# Altium footprint library ETL_RB.PcbLib: 45 footprints (part 3 of 3)
Each footprint in its own frame and in the unit in brackets; x right, y up, seen from the top. Pads: shape width x height; smd on the part's side, far side on the other; paste and mask are expansions set on the pad; w line width, h text height; cw(c..) or ccw(c..) is an arc to the next point about the centre after c.
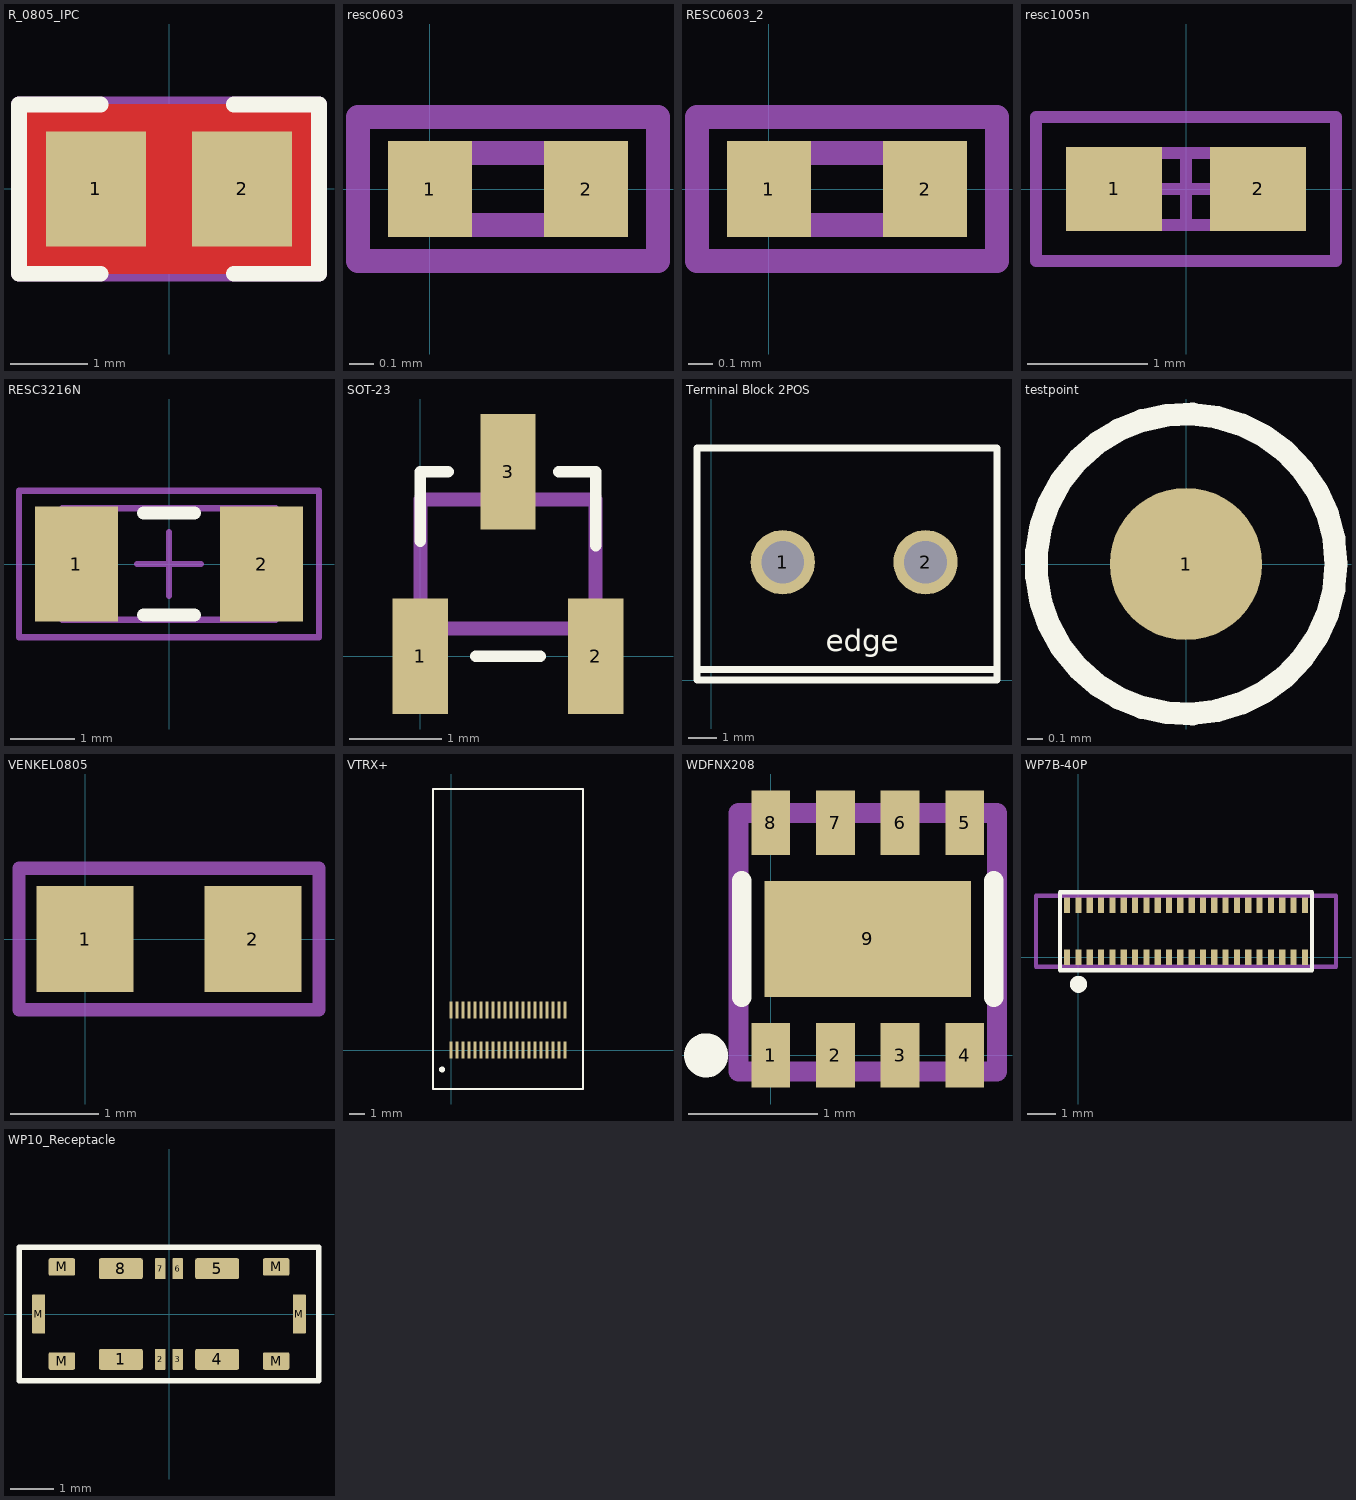
[diagram p2: the footprints below, top view; thin cyan lines are the x and y axes]

## R_0805_IPC [mm]
pads (2):
  rect 1.3x1.5 smd: 1(-0.95,0) 2(0.95,0)
Top Layer:
  pour cut-out: -1.9,-1.1 1.9,-1.1 1.9,1.1 -1.9,1.1
Top Overlay:
  lines w0.203: -1.95,-1.1 -0.889,-1.1 ; -1.95,-1.061 -1.95,1.098 -0.889,1.098 ; 0.844,-1.1 1.95,-1.1 ; 0.844,1.098 1.905,1.098 ; 1.95,-1.061 1.95,1.1
Mechanical 1:
  lines w0.203: -1.95,-1.1 1.95,-1.1 1.95,1.1 -1.95,1.1 -1.95,-1.1
  text ".Designator" at -1.5,-0.3 h0.85
3D body "RESC2012X06M.step": height 0.6, standoff 0, extent -1.1,-0.675 1.1,0.675

## resc0603 [mm]
pads (2):
  rect 0.35x0.4 smd: 1(0,0) 2(0.65,0)
Mechanical 13:
  lines w0.102: 0,-0.15 0,0.15 0.65,0.15 0.65,-0.15 0,-0.15
Mechanical 15:
  lines w0.102: -0.3,-0.3 0.95,-0.3 0.95,0.3 -0.3,0.3 -0.3,-0.3
3D body: height 0.5, standoff 0, extent 0.001,-0.149 0.649,0.149

## RESC0603_2 [mm]
pads (2):
  rect 0.35x0.4 smd: 1(0,0) 2(0.65,0)
Mechanical 13:
  lines w0.102: 0,-0.15 0,0.15 0.65,0.15 0.65,-0.15 0,-0.15
Mechanical 15:
  lines w0.102: -0.3,-0.3 0.95,-0.3 0.95,0.3 -0.3,0.3 -0.3,-0.3
3D body: height 0.5, standoff 0, extent 0.001,-0.149 0.649,0.149

## resc1005n [mm] "Chip Resistor, Body 1.1x0.5mm, IPC Medium Density"
height 0.4
pads (2):
  rect 0.8x0.7 smd: 1(-0.6,0) 2(0.6,0)
Mechanical 13:
  lines w0.1: -0.55,-0.3 -0.55,0.3 0.55,0.3 0.55,-0.3 -0.55,-0.3
Mechanical 15:
  lines w0.1: -0.3,0 0.3,0 ; 0,-0.3 0,0.3 ; -1.25,-0.6 -1.25,0.6 1.25,0.6 1.25,-0.6 -1.25,-0.6
3D body: height 0.4, standoff 0, extent -0.55,-0.3 0.55,0.3

## RESC3216N [mm] "Chip Resistor, Body 3.2x1.6mm, IPC Medium Density"
height 0.71
pads (2):
  rect 1.3x1.8 smd: 1(-1.45,0) 2(1.45,0)
Top Overlay:
  lines w0.2: -0.4,-0.8 0.4,-0.8 ; -0.4,0.8 0.4,0.8
Mechanical 13:
  lines w0.1: -1.675,-0.875 -1.675,0.875 1.675,0.875 1.675,-0.875 -1.675,-0.875
Mechanical 15:
  lines w0.1: -0.5,0 0.5,0 ; 0,-0.5 0,0.5 ; -2.35,-1.15 -2.35,1.15 2.35,1.15 2.35,-1.15 -2.35,-1.15
3D body: height 0.55, standoff 0, extent -1.675,-0.875 1.675,0.875

## SOT-23 [mm]
pads (3):
  rect 0.6x1.25 smd: 1(0,0) 2(1.9,0) 3(0.95,2)
Top Overlay:
  lines w0.127: 0,1.25 0,2 0.3,2 ; 0.6,0 1.3,0 ; 1.5,2 1.9,2 1.9,1.2
Mechanical 5:
  lines w0.152: 0,0.3 0,1.7 1.9,1.7 1.9,0.3 0,0.3
3D body: height 1.2, standoff 0, extent 0.001,0.301 1.899,1.699

## Terminal Block 2POS [mil] "TE 282836-2"
pads (2):
  round 90 hole 60: 1(100,165) 2(300,165)
Top Overlay:
  lines w10: -20,15 400,15 ; -20,0 400,0 400,325 -20,325 -20,0
  text "edge" at 160,40 h30
3D body "c-282836-2-h-3d.stp": height 397.64, standoff -133.86, extent -20,3.58 397.32,326.42

## testpoint [mil]
height 19.68
pads (1):
  round 40 smd paste-39.37: 1(0,0)
Top Overlay:
  circle w6: c0,0 r39.37

## VENKEL0805 [mm]
height 1.7
pads (2):
  rect 1.1x1.2 smd: 1(0,0) 2(1.9,0)
Mechanical 15:
  lines w0.152: -0.75,-0.8 -0.75,0.8 2.65,0.8 2.65,-0.8 -0.75,-0.8
3D body: height 1.7, standoff 0, extent -0.749,-0.799 2.649,0.799

## VTRX+ [mm]
pads (40):
  rect 0.2x1.12 smd: 1(0,0) 2(0,2.66) 3(0.4,0) 4(0.4,2.66) 5(0.8,0) 6(0.8,2.66) 7(1.2,0) 8(1.2,2.66) 9(1.6,0) 10(1.6,2.66) 11(2,0) 12(2,2.66) 13(2.4,0) 14(2.4,2.66) 15(2.8,0) 16(2.8,2.66) 17(3.2,0) 18(3.2,2.66) 19(3.6,0) 20(3.6,2.66) 21(4,0) 22(4,2.66) 23(4.4,0) 24(4.4,2.66) 25(4.8,0) 26(4.8,2.66) 27(5.2,0) 28(5.2,2.66) 29(5.6,0) 30(5.6,2.66) 31(6,0) 32(6,2.66) 33(6.4,0) 34(6.4,2.66) 35(6.8,0) 36(6.8,2.66) 37(7.2,0) 38(7.2,2.66) 39(7.6,0) 40(7.6,2.66)
Top Overlay:
  circle w0.2: c-0.6,-1.3 r0.1
  lines w0.15: -1.2,-2.6 -1.2,17.4 8.8,17.4 8.8,-2.6 -1.2,-2.6
Mechanical 13:
  lines w0.152: -1.2,-2.6 -1.2,17.4 8.8,17.4 8.8,-2.6 -1.2,-2.6
3D body: height 2, standoff 0, extent -1.199,-2.599 8.799,17.399

## WDFNX208 [mm]
height 0.8
pads (9):
  rect 0.3x0.5 smd: 1(0,0) 2(0.5,0) 3(1,0) 4(1.5,0) 5(1.5,1.8) 6(1,1.8) 7(0.5,1.8) 8(0,1.8)
  rect 1.6x0.9 smd: 9(0.75,0.9)
Top Overlay:
  circle w0.2: c-0.5,0 r0.071
  lines w0.15: -0.225,0.45 -0.225,1.35 ; 1.725,0.45 1.725,1.35
Mechanical 13:
  lines w0.152: -0.25,-0.125 -0.25,1.875 1.75,1.875 1.75,-0.125 -0.25,-0.125
3D body: height 0.8, standoff 0, extent -0.249,-0.124 1.749,1.874

## WP7B-40P [mm]
height 0.5
pads (44):
  rect 0.22x0.55 smd: 1(0,0) 2(0.4,0) 3(0.8,0) 4(1.2,0) 5(1.6,0) 6(2,0) 7(2.4,0) 8(2.8,0) 9(3.2,0) 10(3.6,0) 11(4,0) 12(4.4,0) 13(4.8,0) 14(5.2,0) 15(5.6,0) 16(6,0) 17(6.4,0) 18(6.8,0) 19(7.2,0) 20(7.6,0) 21(7.6,1.85) 22(7.2,1.85) 23(6.8,1.85) 24(6.4,1.85) 25(6,1.85) 26(5.6,1.85) 27(5.2,1.85) 28(4.8,1.85) 29(4.4,1.85) 30(4,1.85) 31(3.6,1.85) 32(3.2,1.85) 33(2.8,1.85) 34(2.4,1.85) 35(2,1.85) 36(1.6,1.85) 37(1.2,1.85) 38(0.8,1.85) 39(0.4,1.85) 40(0,1.85) 41(-0.4,0) 42(8,0) 43(8,1.85) 44(-0.4,1.85)
Top Overlay:
  circle w0.5: c0,-0.95 r0.05
  lines w0.15: -0.65,-0.45 8.25,-0.45 8.25,2.3 -0.65,2.3 -0.65,-0.45
Mechanical 13:
  lines w0.152: -1.5,-0.325 9.1,-0.325 9.1,2.175 -1.5,2.175 -1.5,-0.325
3D body: height 0.5, standoff 0, extent -1.499,-0.324 9.099,2.174

## WP10_Receptacle [mm]
pads (14):
  rrect15% 1x0.475 smd: 1(-1.1,-1.038) 4(1.1,-1.038) 5(1.1,1.038) 8(-1.1,1.038)
  rrect15% 0.24x0.475 smd: 2(-0.2,-1.038) 3(0.2,-1.038) 6(0.2,1.038) 7(-0.2,1.038)
  rrect15% 0.3x0.9 smd: M(-2.98,0) M(2.98,0)
  rrect15% 0.6x0.4 smd: M(-2.45,-1.075) M(-2.45,1.075) M(2.45,-1.075) M(2.45,1.075)
Top Overlay:
  lines w0.125: -3.429,-1.524 -3.429,1.524 3.429,1.524 3.429,1.27 3.429,-1.524 -3.429,-1.524
3D body "K3D-WP10-S004VA10-V2_JAE_Proprietary.STEP": height 0.7, standoff 0, extent -3.04,-1.1 3.04,1.1